# Altium schematic symbol library Resistors.SchLib: 1 symbol
Pins are listed as number, name and electrical type; pins without a type are passive.

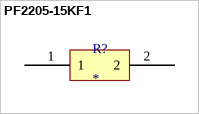
[diagram p0: symbol PF2205-15KF1]

## PF2205-15KF1
designator R?
RES 15K OHM 50W 1% TO220
footprint PF2205-15KF1 (RES 15K OHM 50W 1% TO220)
pins: 1, 2